# Altium schematic symbol library SMD Capacitors 0603.SchLib: 48 symbols
Pins are listed as number, name and electrical type; pins without a type are passive.

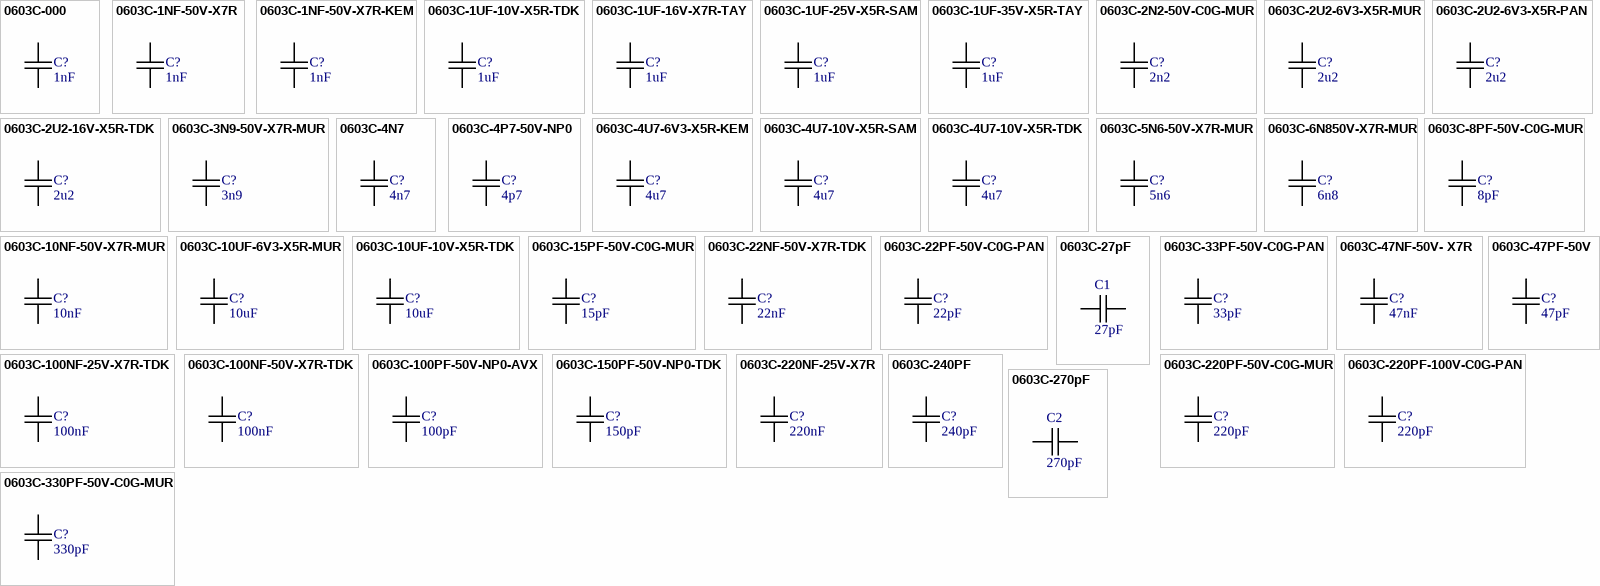
[diagram p0: symbols 0603C-000 to 0603C-330PF-50V-C0G-MUR]

## 0603C-000
designator C?, comment 1nF
CAPACITOR 0603 CERAMIC
footprint 0603C-GENERIC (CAPACITOR 0805)
pins: 1, 2

## 0603C-1NF-50V-X7R
designator C?, comment 1nF
CAPACITOR 0603 CERAMIC
footprint 0603C-GENERIC (CAPACITOR 0805)
pins: 1, 2

## 0603C-1NF-50V-X7R-KEM
designator C?, comment 1nF
CAPACITOR 0603 CERAMIC; Reel: C45; Supplier 1: Digi-Key; Supplier Part Number 1: 399-1082-2-ND
footprint 0603C-GENERIC (CAPACITOR 0805)
pins: 1, 2

## 0603C-1UF-10V-X5R-TDK
designator C?, comment 1uF
CAPACITOR 0603 CERAMIC; Manufacturer: TDK Corporation; Manufacturer Part Number: C1608X5R1A105K; Reel: C23; Supplier 1: Digi-Key; Supplier Part Number 1: 445-1321-2-ND
footprint 0603C-GENERIC (CAPACITOR 0805)
pins: 1, 2

## 0603C-1UF-16V-X7R-TAY
designator C?, comment 1uF
CAPACITOR 0603 CERAMIC; Manufacturer Part Number: EMK107B7105KA-T; Manufacturer: Taiyo Yuden; Reel: C37; Supplier 1: Digi-Key; Supplier Part Number 1: 587-1241-2-ND
footprint 0603C-GENERIC (CAPACITOR 0805)
pins: 1, 2

## 0603C-1UF-25V-X5R-SAM
designator C?, comment 1uF
CAPACITOR 0603 CERAMIC; Reel: C17
footprint 0603C-GENERIC (CAPACITOR 0805)
pins: 1, 2

## 0603C-1UF-35V-X5R-TAY
designator C?, comment 1uF
CAPACITOR 0603 CERAMIC; Manufacturer Part Number: GMK107BJ105KA-T; Manufacturer: Taiyo Yuden; Reel: C92; Supplier 1: Digi-Key; Supplier Part Number 1: 587-1437-1-ND
footprint 0603C-GENERIC (CAPACITOR 0603)
pins: 1, 2

## 0603C-2N2-50V-C0G-MUR
designator C?, comment 2n2
CAPACITOR 0603 CERAMIC; Reel: C4
footprint 0603C-GENERIC (CAPACITOR 0603)
pins: 1, 2

## 0603C-2U2-6V3-X5R-MUR
designator C?, comment 2u2
CAPACITOR 0603 CERAMIC; Reel: C20
footprint 0603C-2U2 (CAPACITOR 0603)
pins: 1, 2

## 0603C-2U2-6V3-X5R-PAN
designator C?, comment 2u2
CAPACITOR 0805 CERAMIC; Manufacturer Part Number: ECJ-1VB0J225K; Manufacturer: Panasonic - ECG; Supplier 1: Digi-Key; Supplier Part Number 1: PCC2273TR-ND; Reel: *
footprint 0805C-TBD (CAPACITOR 0805)
pins: 1, 2

## 0603C-2U2-16V-X5R-TDK
designator C?, comment 2u2
CAPACITOR 0603 CERAMIC; Manufacturer: TDK Corporation; Manufacturer Part Number: C1608X5R1A225K; Reel: C11; Supplier 1: Digi-Key; Supplier Part Number 1: 445-5157-1-ND
footprint 0603C-2U2 (CAPACITOR 0603)
pins: 1, 2

## 0603C-3N9-50V-X7R-MUR
designator C?, comment 3n9
CAPACITOR 0603 CERAMIC; Manufacturer Part Number: GRM188R71H392KA01D; Manufacturer: Murata Electronics North America; Reel: C39; Supplier 1: Digi-Key; Supplier Part Number 1: 490-1504-2-ND
footprint 0603C-GENERIC (CAPACITOR 0603)
pins: 1, 2

## 0603C-4N7
designator C?, comment 4n7
CAPACITOR 0603 CERAMIC; REEL: C83; Supplier 1: Digi-Key; Supplier Part Number 1: 445-5086-2-ND
footprint 0603C-TBD (CAPACITOR 0603 TBD)
pins: 1, 2

## 0603C-4P7-50V-NP0
designator C?, comment 4p7
CAPACITOR 0603 CERAMIC
footprint 0603C-GENERIC (CAPACITOR 0603)
pins: 1, 2

## 0603C-4U7-6V3-X5R-KEM
designator C?, comment 4u7
CAPACITOR 0603 CERAMIC; Reel: C36
footprint 0603C-GENERIC (CAPACITOR 0603)
pins: 1, 2

## 0603C-4U7-10V-X5R-SAM
designator C?, comment 4u7
CAPACITOR 0603 CERAMIC; Reel: C46
footprint 0603C-GENERIC (CAPACITOR 0603)
pins: 1, 2

## 0603C-4U7-10V-X5R-TDK
designator C?, comment 4u7
CAPACITOR 0603 CERAMIC; Manufacturer Part Number: C1608X5R1A475K; Manufacturer: TDK Corporation; Reel: C13; Temperature Coefficient: X5R; Voltage - Rated: 10V; Capacitance: 4.7µF; Tolerance: ±10%; Supplier 1: Digi-Key; Mounting Type: Surface Mount, MLCC; Operating Temperature: -55°C ~ 85°C; Features: General Purpose; Lead Spacing: -; Package / Case: 0603 (1608 metric); Thickness: 0.80mm; Packaging: Tape & Reel (TR); Category: Capacitors; Supplier: Digi-Key; RoHS: RoHS Compliant; Supplier Part Number 1: 445-5170-2-ND; Supplier Part Number: 445-5170-2-ND
footprint 0603C-GENERIC (CAPACITOR 0603)
pins: 1, 2

## 0603C-5N6-50V-X7R-MUR
designator C?, comment 5n6
CAPACITOR 0603 CERAMIC; Manufacturer: Murata Electronics North America; Manufacturer Part Number: GRM188R71H562KA01D; Reel: C34; Supplier 1: Digi-Key; Supplier Part Number 1: 490-1507-2-ND
footprint 0603C-GENERIC (CAPACITOR 0603)
pins: 1, 2

## 0603C-6N850V-X7R-MUR
designator C?, comment 6n8
CAPACITOR 0603 CERAMIC; Manufacturer: Murata Electronics North America; Manufacturer Part Number: GRM188R71H682KA01D; Reel: C35; Supplier 1: Digi-Key; Supplier Part Number 1: 490-1508-2-ND
footprint 0603C-GENERIC (CAPACITOR 0603)
pins: 1, 2

## 0603C-8PF-50V-C0G-MUR
designator C?, comment 8pF
CAPACITOR 0603 CERAMIC; Reel: C2; Supplier 1: Digi-Key; Supplier Part Number 1: 490-9670-1-ND
footprint 0603C-GENERIC (CAPACITOR 0805)
pins: 1, 2

## 0603C-10NF-50V-X7R-MUR
designator C?, comment 10nF
CAPACITOR 0603 CERAMIC; Manufacturer Part Number: GRM188R71H103KA01D; Manufacturer: Murata Electronics North America; Reel: C22; Supplier 1: Digi-Key; Supplier Part Number 1: 490-1512-1-ND
footprint 0603C-GENERIC (CAPACITOR 0603)
pins: 1, 2

## 0603C-10UF-6V3-X5R-MUR
designator C?, comment 10uF
CAPACITOR 0603 CERAMIC; Manufacturer: Murata Electronics North America; Manufacturer Part Number: GRM188R60J106ME47D; Reel: C24; Supplier 1: Digi-Key; Supplier Part Number 1: 490-3896-2-ND
footprint 0603C-GENERIC (CAPACITOR 0603)
pins: 1, 2

## 0603C-10UF-10V-X5R-TDK
designator C?, comment 10uF
CAPACITOR 0603 CERAMIC; Manufacturer Part Number: C1608X5R0J106M; Manufacturer: TDK Corporation; Reel: C31; Supplier 1: Digi-Key; Supplier Part Number 1: 445-4112-2-ND
footprint 0603C-GENERIC (CAPACITOR 0805)
pins: 1, 2

## 0603C-15PF-50V-C0G-MUR
designator C?, comment 15pF
CAPACITOR 0603 CERAMIC; Reel: C2
footprint 0603C-GENERIC (CAPACITOR 0805)
pins: 1, 2

## 0603C-22NF-50V-X7R-TDK
designator C?, comment 22nF
CAPACITOR 0603 CERAMIC; Reel: C89; Supplier 1: Digi-Key; Supplier Part Number 1: 445-1312-2-ND
footprint 0603C-GENERIC (CAPACITOR 0805)
pins: 1, 2

## 0603C-22PF-50V-C0G-PAN
designator C?, comment 22pF
CAPACITOR 0603 CERAMIC; Manufacturer Part Number: ECJ-1VC1H220J; Manufacturer: Panasonic - ECG; Reel: C10; Tolerance: ±5%; Temperature Coefficient: C0G, NP0; Voltage - Rated: 50V; Supplier 1: Digi-Key; Features: General Purpose; Lead Spacing: -; Supplier: Digi-Key; Capacitance: 22pF; Packaging: Tape & Reel (TR); Mounting Type: Surface Mount, MLCC; RoHS: RoHS Compliant; Operating Temperature: -55°C ~ 125°C; Thickness: 0.80mm; Package / Case: 0603 (1608 metric); Category: Capacitors; Supplier Part Number 1: PCC220ACVTR-ND; Supplier Part Number: PCC220ACVTR-ND
footprint 0603C-GENERIC (CAPACITOR 0805)
pins: 1, 2

## 0603C-27pF
designator C1, comment 27pF
CAPACITOR 0603 CERAMIC; REEL: C98; Supplier 1: Digi-Key; Supplier Part Number 1: 445-1274-2-ND
footprint 0603C-GENERIC (CAPACITOR 0603)
pins: 1, 2

## 0603C-33PF-50V-C0G-PAN
designator C?, comment 33pF
CAPACITOR 0603 CERAMIC; Reel: C42
footprint 0603C-GENERIC (CAPACITOR 0805)
pins: 1, 2

## 0603C-47NF-50V- X7R
designator C?, comment 47nF
CAPACITOR 0603 CERAMIC
footprint 0603C-47NF (CAPACITOR 0603)
pins: 1, 2

## 0603C-47PF-50V
designator C?, comment 47pF
CAPACITOR 0603 CERAMIC; REEL: C82; Supplier 1: Digi-Key; Supplier Part Number 1: PCC470ACVTR-ND
footprint 0603C-TBD (CAPACITOR 0805)
pins: 1, 2

## 0603C-100NF-25V-X7R-TDK
designator C?, comment 100nF
CAPACITOR 0603 CERAMIC; Manufacturer Part Number: C1608X7R1E104K; Manufacturer: TDK Corporation; Reel: C12; Supplier 1: Digi-Key; Supplier Part Number 1: 445-1316-2-ND
footprint 0603C-GENERIC (CAPACITOR 0805)
pins: 1, 2

## 0603C-100NF-50V-X7R-TDK
designator C?, comment 100nF
CAPACITOR 0603 CERAMIC; Manufacturer Part Number: C1608X7R1H103K; Manufacturer: TDK Corporation; Temperature Coefficient: X7R; Tolerance: ±10%; Voltage - Rated: 50V; Capacitance: 10000pF; Reel: C68; RoHS: RoHS Compliant; Lead Spacing: -; Package / Case: 0603 (1608 metric); Features: General Purpose; Packaging: Tape & Reel (TR); Thickness: 0.80mm; Operating Temperature: -55°C ~ 125°C; Mounting Type: Surface Mount, MLCC; Category: Capacitors; Supplier 1: Digi-Key; Supplier Part Number 1: 445-1311-1-ND
footprint 0603C-GENERIC (CAPACITOR 0805)
pins: 1, 2

## 0603C-100PF-50V-NP0-AVX
designator C?, comment 100pF
CAPACITOR 0603 CERAMIC; Reel: C44
footprint 0603C-GENERIC (CAPACITOR 0805)
pins: 1, 2

## 0603C-150PF-50V-NP0-TDK
designator C?, comment 150pF
CAPACITOR 0603 CERAMIC; Supplier 1: Digi-Key; Supplier Part Number 1: 445-1283-2-ND
footprint 0603C-GENERIC (CAPACITOR 0805)
pins: 1, 2

## 0603C-220NF-25V-X7R
designator C?, comment 220nF
CAPACITOR 0603 CERAMIC; Manufacturer: TDK Corporation; Manufacturer Part Number: C1608X7R1E224K; Temperature Coefficient: X7R; Tolerance: ±10%; Capacitance: 0.22µF; Voltage - Rated: 25V; REEL: C93; Supplier 1: Digi-Key; Supplier Part Number 1: 445-5191-2-ND; Lead Spacing: -; Packaging: Tape & Reel (TR); Category: Capacitors; Package / Case: 0603 (1608 Metric); Thickness: 0.80mm; Operating Temperature: -55°C ~ 125°C; Features: General Purpose; Supplier Part Number: 445-5191-2-ND; RoHS: RoHS Compliant; Supplier: Digi-Key; Mounting Type: Surface Mount, MLCC
footprint 0603C-GENERIC (CAPACITOR 0805)
pins: 1, 2

## 0603C-220PF-50V-C0G-MUR
designator C?, comment 220pF
CAPACITOR 0603 CERAMIC; Manufacturer: Murata Electronics North America; Manufacturer Part Number: GRM1885C1H221JA01D; Reel: C15; Tolerance: ±5%; Temperature Coefficient: C0G, NP0; Voltage - Rated: 50V; Supplier 1: Digi-Key; RoHS: RoHS Compliant; Lead Spacing: -; Capacitance: 220pF; Supplier: Digi-Key; Features: General Purpose; Package / Case: 0603 (1608 metric); Packaging: Tape & Reel (TR); Operating Temperature: -55°C ~ 125°C; Category: Capacitors; Thickness: 0.80mm; Mounting Type: Surface Mount, MLCC; Supplier Part Number 1: 490-1435-2-ND; Supplier Part Number: 490-1435-2-ND
footprint 0603C-GENERIC (CAPACITOR 0805)
pins: 1, 2

## 0603C-220PF-100V-C0G-PAN
designator C?, comment 220pF
CAPACITOR 0603 CERAMIC; Reel: C41
footprint 0603C-GENERIC (CAPACITOR 0805)
pins: 1, 2

## 0603C-240PF
designator C?, comment 240pF
CAPACITOR 0603 CERAMIC; REEL: C95; Supplier 1: Digi-Key; Supplier Part Number 1: 490-1436-2-ND
footprint 0603C-TBD (CAPACITOR 0805)
pins: 1, 2

## 0603C-270pF
designator C2, comment 270pF
CAPACITOR 0603 CERAMIC; REEL: C99; Supplier 1: Digi-Key; Supplier Part Number 1: 490-1485-2-ND
footprint 0603C-GENERIC (CAPACITOR 0603)
pins: 1, 2

## 0603C-330PF-50V-C0G-MUR
designator C?, comment 330pF
CAPACITOR 0603 CERAMIC; Reel: C21; Supplier 1: Digi-Key; Supplier Part Number 1: 490-1439-2-ND
footprint 0603C-GENERIC (CAPACITOR 0805)
pins: 1, 2

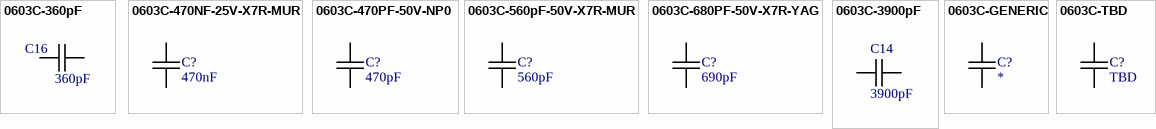
[diagram p1: symbols 0603C-360pF to 0603C-TBD]

## 0603C-360pF
designator C16, comment 360pF
CAPACITOR 0603 CERAMIC; REEL: C101; Supplier 1: Digi-Key; Supplier Part Number 1: 445-5067-2-ND
footprint 0603C-GENERIC (CAPACITOR 0603)
pins: 1, 2

## 0603C-470NF-25V-X7R-MUR
designator C?, comment 470nF
CAPACITOR 0603 CERAMIC; Manufacturer: Murata Electronics North America; Manufacturer Part Number: GRM188R71E474KA12D; Reel: C14; Temperature Coefficient: X7R; Capacitance: 0.47µF; Voltage - Rated: 25V; Tolerance: ±10%; RoHS: RoHS Compliant; Features: General Purpose; Operating Temperature: -55°C ~ 125°C; Packaging: Tape & Reel (TR); Thickness: 0.80mm; Mounting Type: Surface Mount, MLCC; Lead Spacing: -; Category: Capacitors; Package / Case: 0603 (1608 metric); Supplier: Digi-Key; Supplier Part Number: 490-3291-2-ND; Supplier 1: Digi-Key; Supplier Part Number 1: 490-3291-1-ND
footprint 0603C-GENERIC (CAPACITOR 0805)
pins: 1, 2

## 0603C-470PF-50V-NP0
designator C?, comment 470pF
CAPACITOR 0603 CERAMIC; Manufacturer Part Number: 06035C471KAT2A; Manufacturer: AVX Corporation; Reel: C66; Supplier 1: Digi-Key; Supplier Part Number 1: 478-1211-2-ND
footprint 0603C-470P (CAPACITOR 0603)
pins: 1, 2

## 0603C-560pF-50V-X7R-MUR
designator C?, comment 560pF
CAPACITOR 0603 CERAMIC; REEL: C94; Supplier 1: Digi-Key; Supplier Part Number 1: 490-1490-2-ND
footprint 0603C-TBD (CAPACITOR 0805)
pins: 1, 2

## 0603C-680PF-50V-X7R-YAG
designator C?, comment 690pF
CAPACITOR 0603 CERAMIC; Manufacturer: Yageo; Manufacturer Part Number: CC0603KRX7R9BB681; Reel: C43; Supplier 1: Digi-Key; Supplier Part Number 1: 311-1188-2-ND
footprint 0603C-GENERIC (CAPACITOR 0805)
pins: 1, 2

## 0603C-3900pF
designator C14, comment 3900pF
CAPACITOR 0603 CERAMIC; REEL: C71; Supplier 1: Digi-Key; Supplier Part Number 1: PCC1779DKR-ND
footprint 0603C-GENERIC (CAPACITOR 0603)
pins: 1, 2

## 0603C-GENERIC
designator C?
CAPACITOR 0603 CERAMIC GENERIC
footprint 0603C-GENERIC (CAPACITOR 0805)
pins: 1, 2

## 0603C-TBD
designator C?, comment TBD
CAPACITOR 0603 CERAMIC VALUE TO BE DETERMINED; REEL: *
footprint 0603C-TBD (CAPACITOR 0805)
pins: 1, 2